# Altium footprint library ADXL_pcb.PcbLib: 1 footprints
Each footprint in its own frame and in the unit in brackets; x right, y up, seen from the top. Pads: shape width x height; smd on the part's side, far side on the other; paste and mask are expansions set on the pad; w line width, h text height; cw(c..) or ccw(c..) is an arc to the next point about the centre after c.
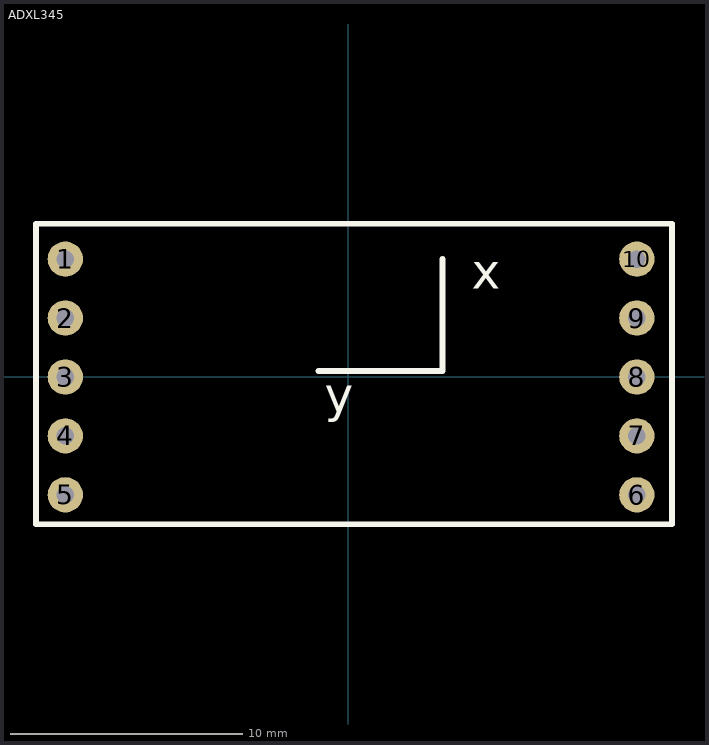
[diagram p0: the footprint, top view; thin cyan lines are the x and y axes]

## ADXL345 [mil]
pads (10):
  round 60 hole 30: 1(-480,200) 2(-480,100) 3(-480,0) 4(-480,-100) 5(-480,-200) 6(490,-200) 7(490,-100) 8(490,0) 9(490,100) 10(490,200)
Top Overlay:
  lines w10: -50,10 160,10 160,200 ; -530,-250 -530,260 550,260 550,-250 -530,-250
  text "y" at -40,-60 h60
  text "x" at 210,150 h60